# Altium schematic symbol library SCH - MEMORY - IC PSRAM 64MBIT SPI 133MHZ 8SOIC.SchLib: 1 symbol
Pins are listed as number, name and electrical type; pins without a type are passive.

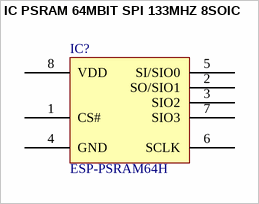
[diagram p0: symbol IC PSRAM 64MBIT SPI 133MHZ 8SOIC]

## IC PSRAM 64MBIT SPI 133MHZ 8SOIC
designator IC?, comment ESP-PSRAM64H
PSRAM (Pseudo SRAM) Memory IC 64Mbit SPI 133 MHz 8-SOIC
footprint ALPHAOMEGA SO8 SOP-8L (SOIC, 8-Leads, Body 4.90x3.90mm, Pitch 1.27mm, IPC Medium Density)
pins: 1 CS#, 2 SO/SIO1, 3 SIO2, 4 GND, 5 SI/SIO0, 6 SCLK, 7 SIO3, 8 VDD